# Altium integrated library My_passive_components.IntLib: 4 symbols
Pins are listed as number, name and electrical type; pins without a type are passive.

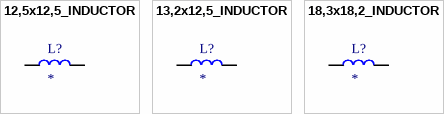
[diagram p0: symbols 12,5x12,5_INDUCTOR to 18,3x18,2_INDUCTOR]

## 12,5x12,5_INDUCTOR
designator L?
footprint 12,5x12,5_INDUCTOR
pins: 1, 2

## 13,2x12,5_INDUCTOR
designator L?
footprint 13,2x12,5_INDUCTOR (Precision Wire Wound Inductor, 2-Leads, Body 13,20x12,50mm, IPC Low Density)
pins: 1, 2

## 18,3x18,2_INDUCTOR
designator L?
footprint 18,3x18,2_INDUCTOR
pins: 1, 2


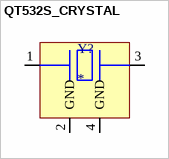
[diagram p1: symbol QT532S_CRYSTAL]

## QT532S_CRYSTAL
designator Y?
footprint QT532S_5,0x3,2_crystal
pins: 1 OSC, 2 GND, 3 OSC, 4 GND